# Altium footprint library Crystals.PcbLib: 15 footprints
Each footprint in its own frame and in the unit in brackets; x right, y up, seen from the top. Pads: shape width x height; smd on the part's side, far side on the other; paste and mask are expansions set on the pad; w line width, h text height; cw(c..) or ccw(c..) is an arc to the next point about the centre after c.
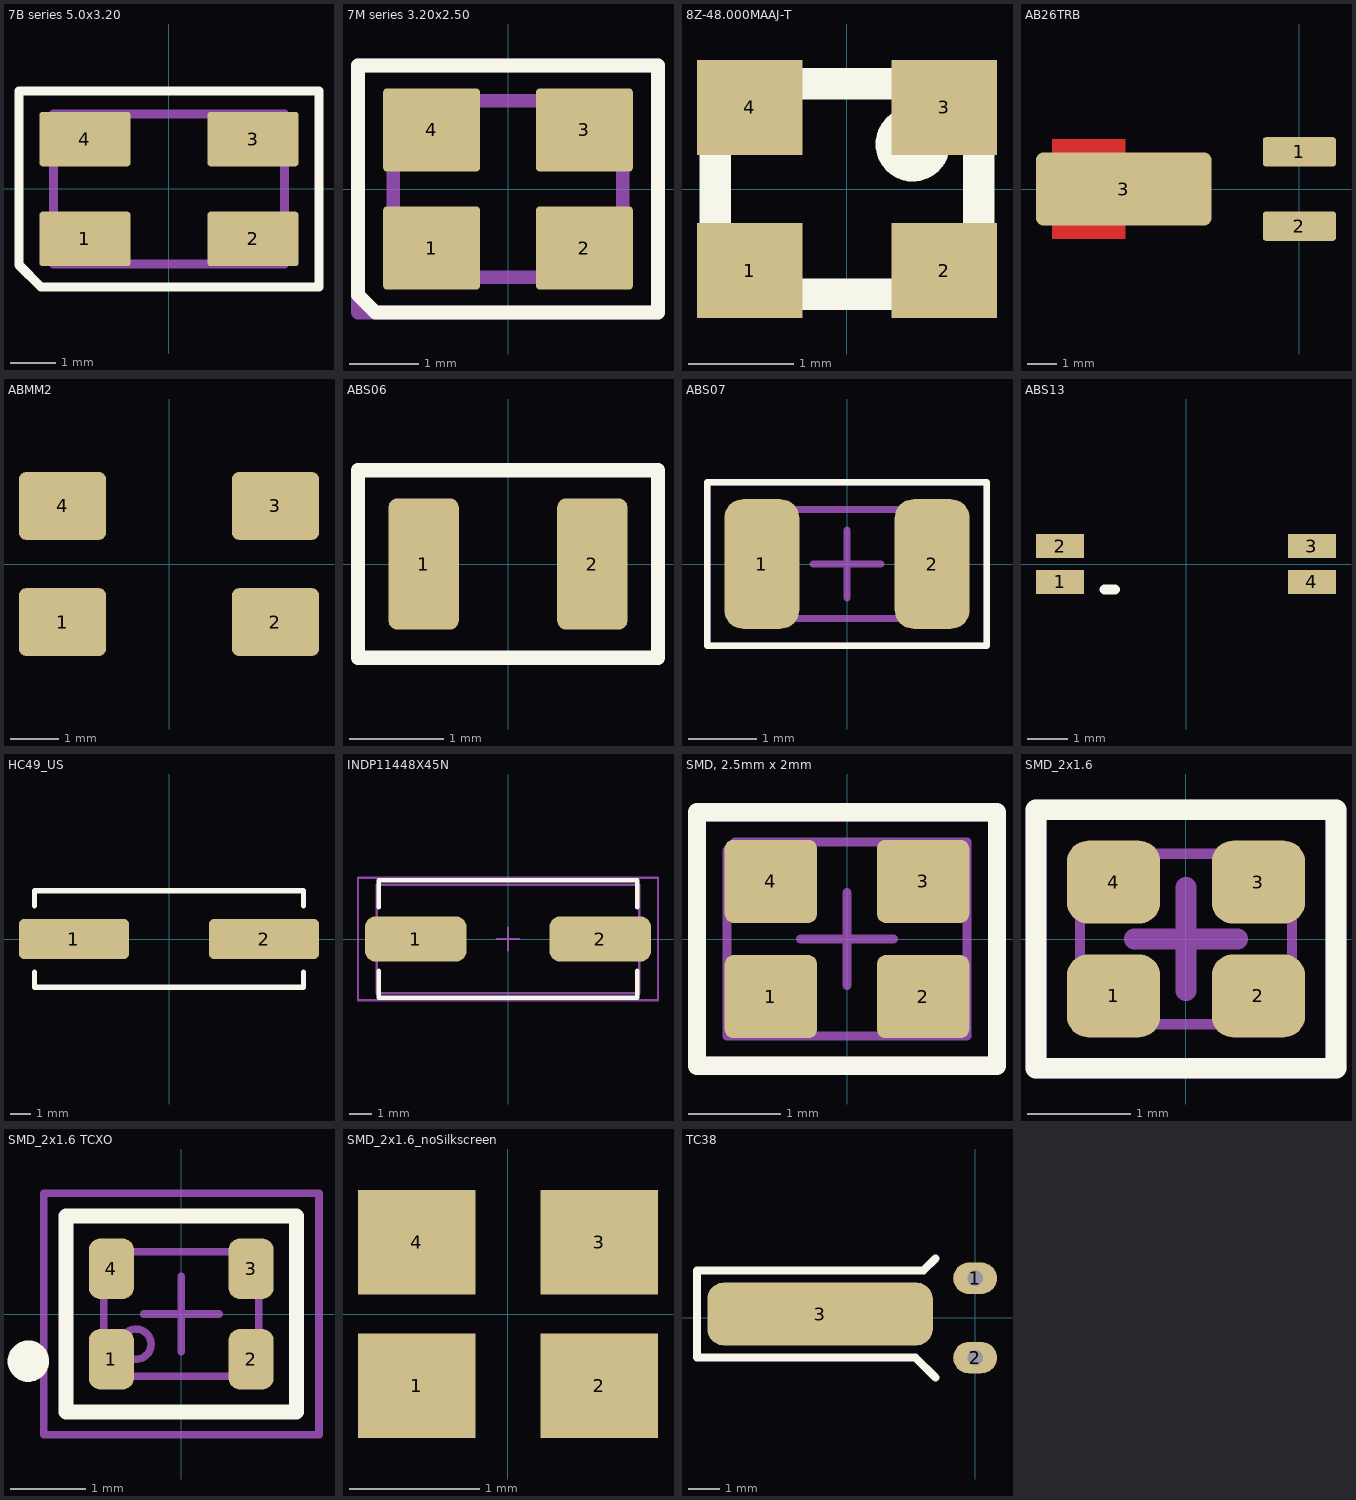
[diagram p0: the footprints below, top view; thin cyan lines are the x and y axes]

## 7B series 5.0x3.20 [mm] "7B series 5.0x3.20"
height 0.9
pads (4):
  rrect10% 2x1.2 smd: 1(-1.85,-1.1) 2(1.85,-1.1) 3(1.85,1.1) 4(-1.85,1.1)
Top Overlay:
  lines w0.2: -3.302,-1.673 -3.302,2.159 3.302,2.159 3.302,-2.159 -2.816,-2.159 -3.302,-1.673
Mechanical 15:
  lines w0.2: -2.54,-1.651 2.54,-1.651 2.54,1.651 -2.54,1.651 -2.54,-1.651
3D body: height 0.9, standoff 0, extent -2.5,-1.6 2.5,1.6

## 7M series 3.20x2.50 [mm] "7M series 3.20x2.50"
height 0.7
pads (4):
  rrect10% 1.4x1.2 smd: 1(-1.1,-0.85) 2(1.1,-0.85) 3(1.1,0.85) 4(-1.1,0.85)
Top Overlay:
  lines w0.2: -2.159,-1.524 -1.905,-1.778 2.159,-1.778 2.159,1.778 -2.159,1.778 -2.159,-1.524
Mechanical 13:
  lines w0.2: -1.651,-1.27 -1.651,1.27 1.651,1.27 1.651,-1.27 -1.651,-1.27
Mechanical 15:
  lines w0.2: -2.159,-1.778 -2.159,1.778 2.159,1.778 2.159,-1.778 -2.159,-1.778
3D body: height 0.7, standoff 0, extent -1.6,-1.25 1.6,1.25

## 8Z-48.000MAAJ-T [mm] "SMD crystal 2.5 x 2 mm"
pads (4):
  rect 1x0.9 smd: 1(-0.925,-0.775) 2(0.925,-0.775) 3(0.925,0.775) 4(-0.925,0.775)
Top Overlay:
  circle w0.254: c0.625,0.425 r0.226
  lines w0.3: -1.25,-1 1.25,-1 1.25,1 -1.25,1 -1.25,-1

## AB26TRB [mm] "AB26TRB"
height 2
pads (3):
  rrect20% 2.5x1 smd: 1(0,1.27) 2(0,-1.27)
  rrect20% 6x2.5 smd: 3(-6,0)
Top Layer:
  rectangle: -8.45,-1.7 -5.95,1.7
Top Solder:
  rectangle: -8.55,-1.8 -5.85,1.8
3D body: height 2, standoff 0, extent -8.286,-1.4 0.714,1.4

## ABMM2 [mm] "ABMM2"
height 1.2
pads (4):
  rrect20% 1.8x1.4 smd: 1(-2.2,-1.2) 2(2.2,-1.2) 3(2.2,1.2) 4(-2.2,1.2)
3D body: height 1.21, standoff 0, extent -3,-1.8 3,1.8

## ABS06 [mm] "ABS06"
height 0.6
pads (2):
  rrect25% 0.75x1.4 smd: 1(-0.9,0) 2(0.9,0)
Top Overlay:
  lines w0.15: -1.6,-1 1.6,-1 1.6,1 -1.6,1 -1.6,-1
3D body: height 0.6, standoff 0, extent -1,-0.61 1,0.61

## ABS07 [mm] "DFN, 2-Leads, Body 1,60x3,30mm, Pitch 2,40mm, IPC Medium Density"
height 0.9
pads (2):
  rrect50% 1.1x1.9 smd: 1(-1.25,0) 2(1.25,0)
Top Overlay:
  lines w0.1: -2.05,-1.2 2.05,-1.2 2.05,1.2 -2.05,1.2 -2.05,-1.2
Mechanical 13:
  lines w0.1: -1.65,-0.8 1.65,-0.8 1.65,0.8 -1.65,0.8 -1.65,-0.8
Mechanical 15:
  lines w0.1: -0.5,0 0.5,0 ; 0,-0.5 0,0.5 ; -2.05,-1.2 2.05,-1.2 2.05,1.2 -2.05,1.2 -2.05,-1.2
3D body: height 0.91, standoff 0, extent -1.61,-0.76 1.61,0.76

## ABS13 [mm]
pads (4):
  rect 1.2x0.6 smd: 1(-3.15,-0.45) 2(-3.15,0.45) 3(3.15,0.45) 4(3.15,-0.45)
Top Overlay:
  lines w0.254: -2.032,-0.635 -1.778,-0.635
3D body: height 1.4, standoff 0, extent -3.45,-0.738 3.45,0.762

## HC49_US [mm] "HC49_US"
height 3.8
pads (2):
  rrect25% 5.5x2 smd: 1(-4.75,0) 2(4.75,0)
Top Overlay:
  lines w0.254: -6.731,-1.651 -6.731,-2.413 6.731,-2.413 6.731,-1.651 ; -6.731,1.651 -6.731,2.413 6.731,2.413 6.731,1.651
3D body: height 3.8, standoff 0, extent -6.7,-2.45 6.7,2.45

## INDP11448X45N [mm] "Precision Wire Wound Inductor, 2-Leads, Body 11.4x4.8mm, IPC Medium Density"
height 4.5
pads (2):
  rrect50% 4.5x2 smd: 1(-4.075,0) 2(4.075,0)
Top Overlay:
  lines w0.2: -5.7,-1.4 -5.7,-2.6 5.7,-2.6 5.7,-1.4 ; -5.7,1.4 -5.7,2.6 5.7,2.6 5.7,1.4
Mechanical 13:
  lines w0.1: -5.8,-2.4 5.8,-2.4 5.8,2.4 -5.8,2.4 -5.8,-2.4
Mechanical 15:
  lines w0.1: -0.5,0 0.5,0 ; 0,-0.5 0,0.5 ; -6.625,-2.7 6.625,-2.7 6.625,2.7 -6.625,2.7 -6.625,-2.7
3D body: height 5.08, standoff 0, extent -6.7,-2.45 6.7,2.45

## SMD, 2.5mm x 2mm [mm] "DFN, 4-Leads, Body 2,00x2,50mm, Pitch 1,65mm, IPC Medium Density"
height 0.7
pads (4):
  rrect20% 1x0.9 smd: 1(-0.825,-0.625) 2(0.825,-0.625) 3(0.825,0.625) 4(-0.825,0.625)
Top Overlay:
  lines w0.2: -1.625,-1.375 -1.625,1.375 1.625,1.375 1.625,-1.375 -1.625,-1.375
Mechanical 13:
  circle w0.1: c-0.75,-0.575 r0.206
  lines w0.1: -1.3,-1.05 -1.3,0.96 -1.21,1.05 1.3,1.05 1.3,-1.05 -1.3,-1.05
Mechanical 15:
  lines w0.05: -1.55,-1.3 -1.55,1.3 1.55,1.3 1.55,-1.3 -1.55,-1.3
  lines w0.1: -0.5,0 0.5,0 ; 0,-0.5 0,0.5
3D body: height 0.8, standoff -0.03, extent -1.25,-1 1.25,1

## SMD_2x1.6 [mm]
pads (4):
  rrect50% 0.9x0.8 smd: 1(-0.7,-0.55) 2(0.7,-0.55) 3(0.7,0.55) 4(-0.7,0.55)
Top Overlay:
  lines w0.2: -1.45,-1.25 1.45,-1.25 1.45,1.25 -1.45,1.25 -1.45,-1.25
Mechanical 13:
  lines w0.1: -1.025,-0.825 1.025,-0.825 1.025,0.825 -1.025,0.825 -1.025,-0.825
Mechanical 15:
  lines w0.2: -0.5,0 0.5,0 ; 0,-0.5 0,0.5 ; -1.45,-1.25 1.45,-1.25 1.45,1.25 -1.45,1.25 -1.45,-1.25
3D body: height 0.4, standoff 0, extent -1.025,-0.825 1.025,0.825

## SMD_2x1.6 TCXO [mm] "X1G004691001512"
pads (4):
  rrect50% 0.6x0.8 smd: 1(-0.925,-0.6) 2(0.925,-0.6) 3(0.925,0.6) 4(-0.925,0.6)
Top Overlay:
  circle w0.3: c-2.025,-0.625 r0.125
  lines w0.2: -1.525,-1.3 -1.525,1.3 1.525,1.3 1.525,-1.3 -1.525,-1.3
Mechanical 13:
  circle w0.1: c-0.6,-0.4 r0.2
  lines w0.1: -1.025,-0.825 -1.025,0.825 1.025,0.825 1.025,-0.825 -1.025,-0.825
Mechanical 15:
  lines w0.1: -0.5,0 0.5,0 ; 0,-0.5 0,0.5 ; -1.825,-1.6 1.825,-1.6 1.825,1.6 -1.825,1.6 -1.825,-1.6
3D body: height 0.8, standoff 0, extent -1,-0.8 1,0.8
3D body: height 0.4, standoff 0, extent -1.025,-0.825 1.025,0.825

## SMD_2x1.6_noSilkscreen [mm]
pads (4):
  rect 0.9x0.8 smd: 1(-0.7,-0.55) 2(0.7,-0.55) 3(0.7,0.55) 4(-0.7,0.55)
3D body: height 0.4, standoff 0, extent -1.025,-0.825 1.025,0.825

## TC38 [mm] "TC38 32.768"
height 3.1
pads (3):
  oval 1.4x1 hole 0.5: 1(0,1.27) 2(0,-1.27)
  rrect50% 7.2x2 smd: 3(-4.953,0.127)
Top Overlay:
  lines w0.254: -1.27,-1.905 -1.905,-1.27 -8.89,-1.27 -8.89,1.524 -1.651,1.524 -1.27,1.905
3D body: height 2.25, standoff 0, extent -8.687,-1.266 0.813,1.524